# Altium footprint library Conn_Molex_0874380243_eec_0.PcbLib: 1 footprints
Each footprint in its own frame and in the unit in brackets; x right, y up, seen from the top. Pads: shape width x height; smd on the part's side, far side on the other; paste and mask are expansions set on the pad; w line width, h text height; cw(c..) or ccw(c..) is an arc to the next point about the centre after c.
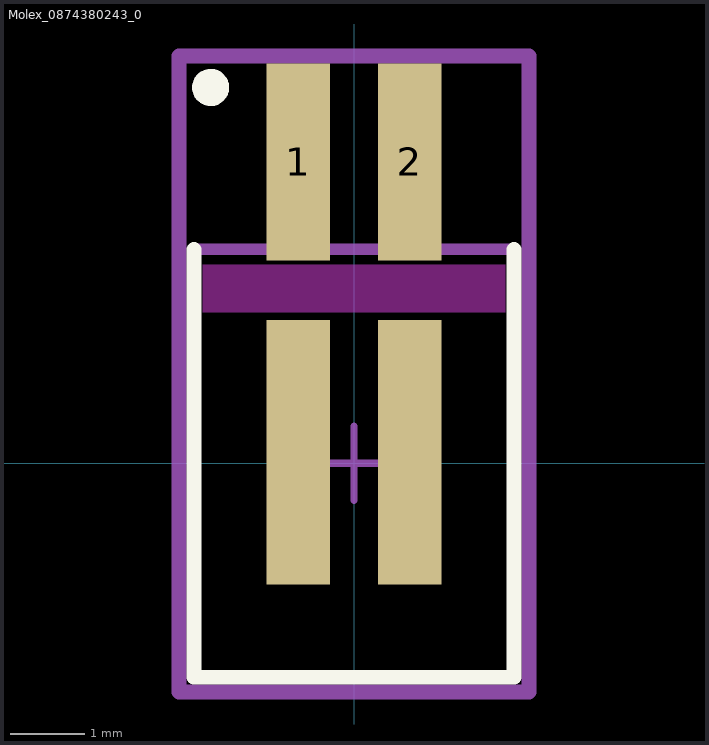
[diagram p0: the footprint, top view; thin cyan lines are the x and y axes]

## Molex_0874380243_0 [mm]
pads (4):
  rect 0.85x2.65 smd paste+0 mask+0: 1(-0.75,4.05) 2(0.75,4.05)
  rect 0.85x3.55 smd paste+0 mask+0: ""(-0.75,0.15) ""(0.75,0.15)
Top Overlay:
  circle w0.25: c-1.926,5.05 r0.125
  lines w0.2: -2.15,2.875 -2.15,-2.875 2.15,-2.875 2.15,2.875
Keep-Out Layer:
  region: -2.032,2.667 -2.032,2.032 2.032,2.032 2.032,2.667
Mechanical 10:
  lines w0.2: -2.35,-3.075 2.35,-3.075 2.35,5.475 -2.35,5.475 -2.35,-3.075
  text ".Designator" at 0,1.2 h1
Mechanical 12:
  lines w0.152: -2.15,-2.875 2.15,-2.875 2.15,2.875 -2.15,2.875 -2.15,-2.875
Mechanical 15:
  lines w0.1: -0.5,0 0.5,0 ; 0,-0.5 0,0.5
  lines w0.2: -2.35,-3.075 2.35,-3.075 2.35,5.475 -2.35,5.475 -2.35,-3.075
3D body "3dmodel.step": height 0.25, standoff 0, extent -2.35,-3.075 2.35,5.475